# EAGLE library part NUCLEO-H503RB-B02 (library NUCLEO-H503RB-B02)
Check availability <https://pricing.snapeda.com/parts/NUCLEO-F303RE/STMicroelectronics/view-part?ref=eda>
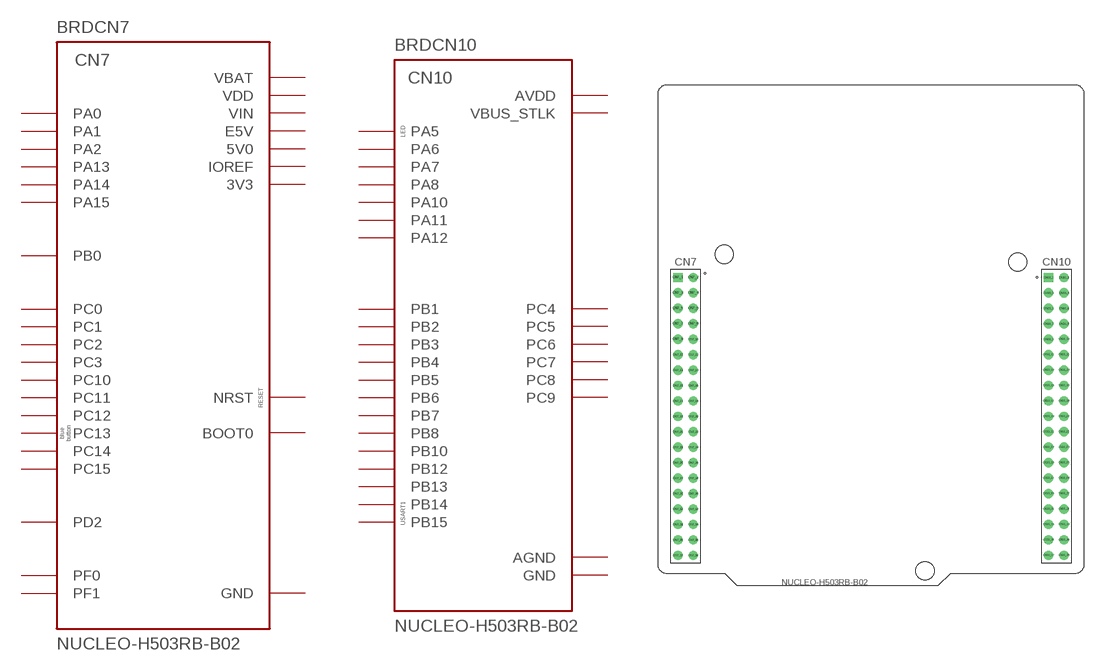
[diagram p0: symbol with the pads of NUCLEO-H503RB-B02; footprint NUCLEO-H503RB-B02]

Designator prefix BRD; gates CN7=NUCLEO-H503RB-B02_CN7 CN10=NUCLEO-H503RB-B02_CN10

## NUCLEO-H503RB-B02 (AVAILABILITY: In Stock; CHECK_PRICES: https://www.snapeda.com/parts/NUCLEO-F303RE/STMicroelectronics/view-part/?ref=eda; DESCRIPTION: STM32F303RE, mbed-Enabled Development Nucleo-64 STM32F3 ARM® Cortex®-M4 MCU 32-Bit Embedded Evaluation Board; MF: STMicroelectronics; MP: NUCLEO-F303RE; PACKAGE: None; PRICE: None; PURCHASE-URL: https://www.snapeda.com/api/url_track_click_mouser/?unipart_id=246753&manufacturer=STMicroelectronics&part_name=NUCLEO-F303RE&search_term=nucleo-h; SNAPEDA_LINK: https://www.snapeda.com/parts/NUCLEO-F303RE/STMicroelectronics/view-part/?ref=snap)  [NUCLEO-H503RB-B02]
CN7_1  CN7:PC10
CN7_2  CN7:PC11
CN7_3  CN7:PC12
CN7_4  CN7:PD2
CN7_5  CN7:VDD  pwr
CN7_6  CN7:E5V  pwr
CN7_7  CN7:BOOT0
CN7_8  CN7:GND  pwr
CN7_12  CN7:IOREF
CN7_13  CN7:PA13
CN7_14  CN7:NRST
CN7_15  CN7:PA14
CN7_16  CN7:3V3  pwr
CN7_17  CN7:PA15
CN7_18  CN7:5V0  pwr
CN7_19  CN7:GND  pwr
CN7_20  CN7:GND  pwr
CN7_22  CN7:GND  pwr
CN7_23  CN7:PC13
CN7_24  CN7:VIN  pwr
CN7_25  CN7:PC14
CN7_27  CN7:PC15
CN7_28  CN7:PA0
CN7_29  CN7:PF0
CN7_30  CN7:PA1
CN7_31  CN7:PF1
CN7_32  CN7:PA2
CN7_33  CN7:VBAT  pwr
CN7_34  CN7:PB0
CN7_35  CN7:PC2
CN7_36  CN7:PC1
CN7_37  CN7:PC3
CN7_38  CN7:PC0
CN10_2  CN10:PC8
CN10_3  CN10:PB6
CN10_5  CN10:PB7
CN10_6  CN10:PC5
CN10_7  CN10:AVDD  pwr
CN10_8  CN10:VBUS_STLK  pwr
CN10_9  CN10:GND  pwr
CN10_11  CN10:PA5
CN10_12  CN10:PA12  nc
CN10_13  CN10:PA6
CN10_14  CN10:PA11  nc
CN10_15  CN10:PA7
CN10_16  CN10:PB12
CN10_17  CN10:PC9
CN10_19  CN10:PC6
CN10_20  CN10:GND  pwr
CN10_21  CN10:PC7
CN10_22  CN10:PB2
CN10_23  CN10:PA8
CN10_24  CN10:PB1
CN10_25  CN10:PB10
CN10_26  CN10:PB15  in
CN10_27  CN10:PB4
CN10_28  CN10:PB14  out
CN10_29  CN10:PB5
CN10_30  CN10:PB13
CN10_31  CN10:PB3  nc
CN10_32  CN10:AGND  pwr
CN10_33  CN10:PA10
CN10_34  CN10:PC4
CN10_35  CN10:PB14  out
CN10_36  CN10:PB8
CN10_37  CN10:PB15  in

## Footprint NUCLEO-H503RB-B02 (pad centres in mm)
drill 1.02 square: CN7_1 -31.75,9.51; CN10_1 29.21,9.51
drill 1.02: CN7_2 -29.21,9.51; CN7_3 -31.75,6.97; CN7_4 -29.21,6.97; CN7_5 -31.75,4.43; CN7_6 -29.21,4.43; CN7_7 -31.75,1.89; CN7_8 -29.21,1.89; CN7_9 -31.75,-0.65; CN7_10 -29.21,-0.65; CN7_11 -31.75,-3.19; CN7_12 -29.21,-3.19; CN7_13 -31.75,-5.73; CN7_14 -29.21,-5.73; CN7_15 -31.75,-8.27; CN7_16 -29.21,-8.27; CN7_17 -31.75,-10.81; CN7_18 -29.21,-10.81; CN7_19 -31.75,-13.35; CN7_20 -29.21,-13.35; CN7_21 -31.75,-15.89; CN7_22 -29.21,-15.89; CN7_23 -31.75,-18.43; CN7_24 -29.21,-18.43; CN7_25 -31.75,-20.97; CN7_26 -29.21,-20.97; CN7_27 -31.75,-23.51; CN7_28 -29.21,-23.51; CN7_29 -31.75,-26.05; CN7_30 -29.21,-26.05; CN7_31 -31.75,-28.59; CN7_32 -29.21,-28.59; CN7_33 -31.75,-31.13; CN7_34 -29.21,-31.13; CN7_35 -31.75,-33.67; CN7_36 -29.21,-33.67; CN7_37 -31.75,-36.21; CN7_38 -29.21,-36.21; CN10_2 31.75,9.51; CN10_3 29.21,6.97; CN10_4 31.75,6.97; CN10_5 29.21,4.43; CN10_6 31.75,4.43; CN10_7 29.21,1.89; CN10_8 31.75,1.89; CN10_9 29.21,-0.65; CN10_10 31.75,-0.65; CN10_11 29.21,-3.19; CN10_12 31.75,-3.19; CN10_13 29.21,-5.73; CN10_14 31.75,-5.73; CN10_15 29.21,-8.27; CN10_16 31.75,-8.27; CN10_17 29.21,-10.81; CN10_18 31.75,-10.81; CN10_19 29.21,-13.35; CN10_20 31.75,-13.35; CN10_21 29.21,-15.89; CN10_22 31.75,-15.89; CN10_23 29.21,-18.43; CN10_24 31.75,-18.43; CN10_25 29.21,-20.97; CN10_26 31.75,-20.97; CN10_27 29.21,-23.51; CN10_28 31.75,-23.51; CN10_29 29.21,-26.05; CN10_30 31.75,-26.05; CN10_31 29.21,-28.59; CN10_32 31.75,-28.59; CN10_33 29.21,-31.13; CN10_34 31.75,-31.13; CN10_35 29.21,-33.67; CN10_36 31.75,-33.67; CN10_37 29.21,-36.21; CN10_38 31.75,-36.21
hole 3 at 8.89,-38.75
hole 3 at 24.13,12.05
hole 3 at -24.13,13.32